# Altium footprint library O_JonF_DaveL.PcbLib: 331 footprints (part 14 of 21)
Each footprint in its own frame and in the unit in brackets; x right, y up, seen from the top. Pads: shape width x height; smd on the part's side, far side on the other; paste and mask are expansions set on the pad; w line width, h text height; cw(c..) or ccw(c..) is an arc to the next point about the centre after c.
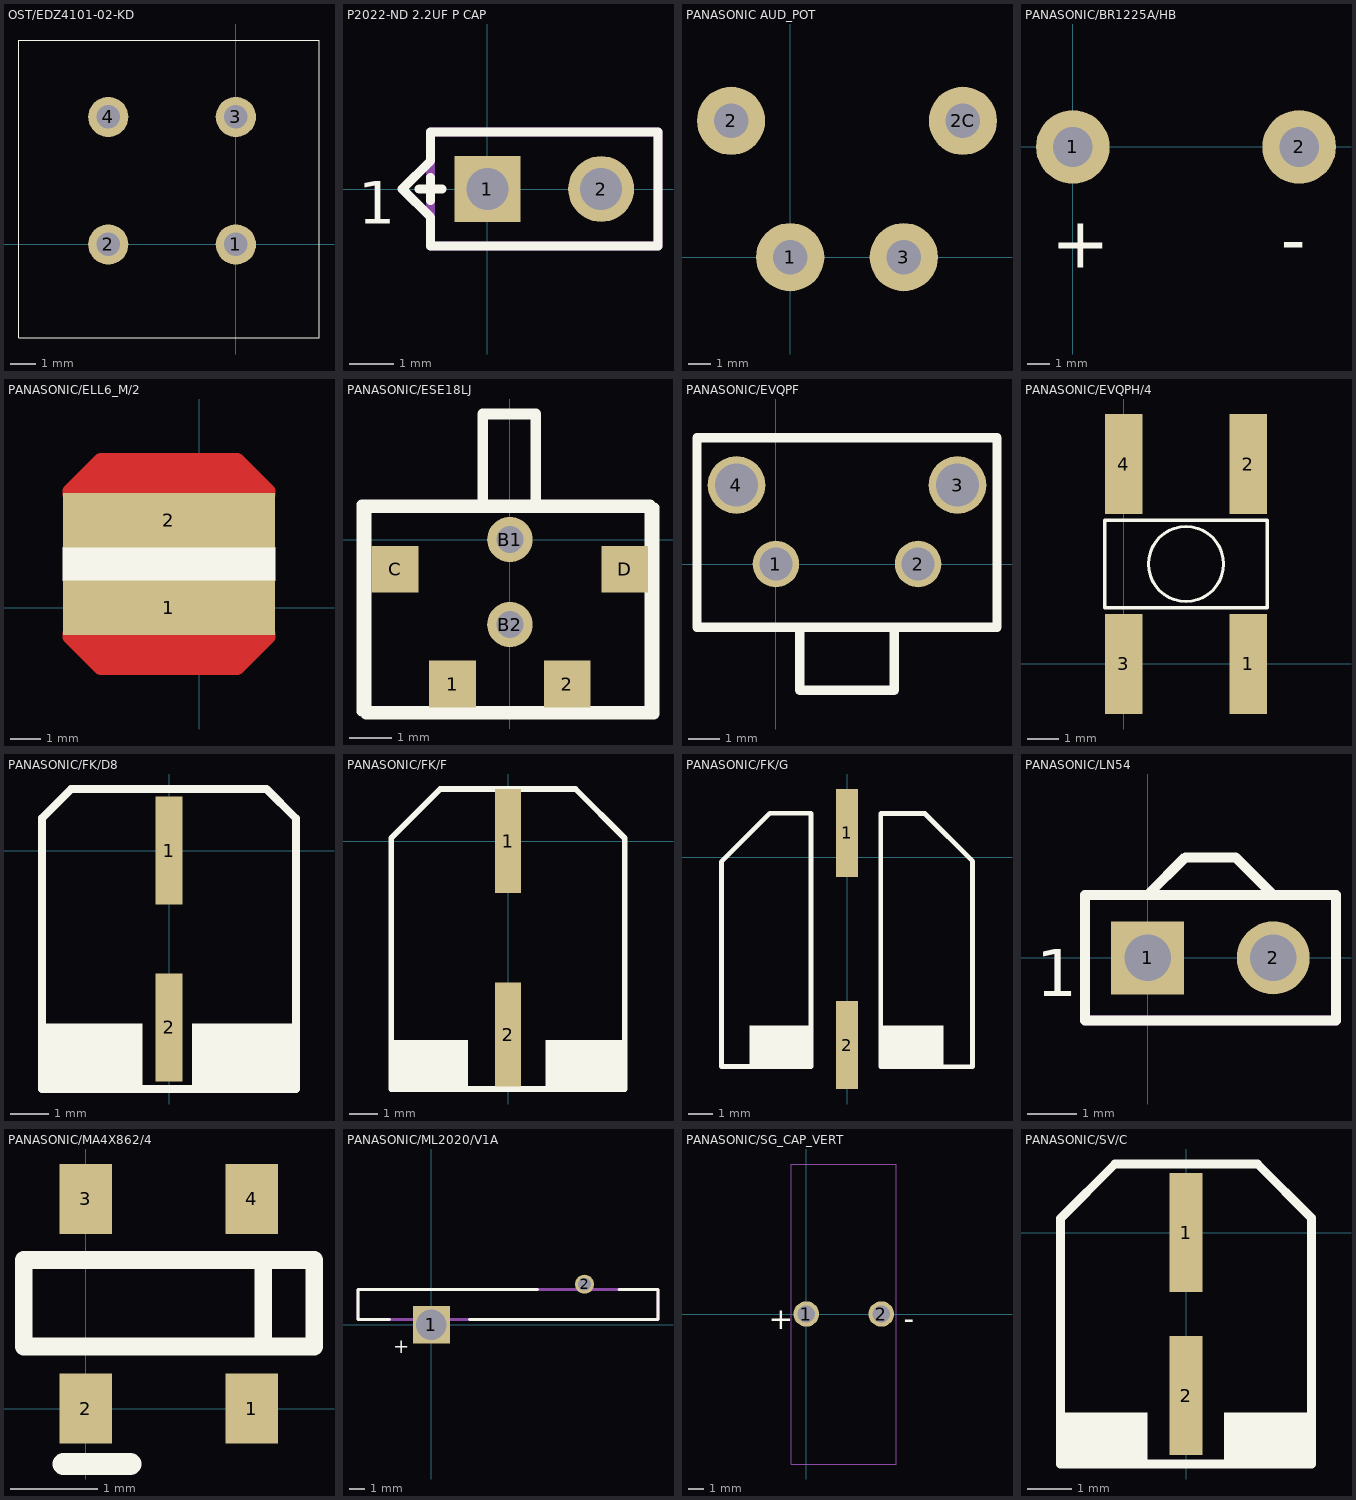
[diagram p13: the footprints below, top view; thin cyan lines are the x and y axes]

## OST/EDZ4101-02-KD [mil]
pads (4):
  round 62 hole 36.22: 1(0,0) 2(-196.85,0) 3(0,196.85) 4(-196.85,196.85)
Top Overlay:
  lines w0.04: -334.65,-143.7 -334.65,314.96 128.35,314.96 128.35,-143.7 -334.65,-143.7
  text ".Designator" at -336.38,322.17 h59.06
Mechanical 1:
  text ".Designator" at 0,354.33 h59.06
  text ".Comment" at 0,236.22 h59.06
  text ".Pattern" at 0,0 h59.06

## P2022-ND 2.2UF P CAP [mil]
pads (2):
  rect 58x58 hole 37: 1(0,0)
  round 58 hole 37: 2(100,0)
Top Overlay:
  lines w8: -60,0 -40,0 ; -50,-10 -50,10 ; -75,0 -50,-25 -50,-50 150,-50 150,50 -50,50 -50,25 -75,0
  text "1" at -113.88,-30.63 h37.5
Mechanical 1:
  lines w8: -50,-50 -50,50 150,50 150,-50 -50,-50
  text "1" at -113.88,-30.63 h37.5

## PANASONIC AUD_POT [mm]
pads (4):
  round 3 / inner round 2 / far side round 3 hole 1.524: 1(0,0) 3(5,0)
  round 3 / inner round 1.524 / far side round 3 hole 1.524: 2(-2.6,6) 2C(7.6,6)

## PANASONIC/BR1225A/HB [mm]
pads (2):
  round 3.25 / inner round 4 / far side round 3.25 hole 1.75: 1(0,0) 2(10,0)
Top Overlay:
  text "+" at -0.96,-5.34 h2.25
  text "-" at 9.18,-5.18 h2.25

## PANASONIC/ELL6_M/2 [mm]
pads (2):
  rect 7x1.8 smd: 1(-1,0) 2(-1,2.9)
Top Layer:
  region: 1.377,5.077 2.477,3.977 2.508,3.9 2.508,3.7 2.477,3.623 2.4,3.592 -4.4,3.592 -4.477,3.623 -4.508,3.7 -4.508,3.9 -4.477,3.977 -3.377,5.077 -3.3,5.108 1.3,5.108
  region: 2.477,-0.723 2.508,-0.8 2.508,-1 2.477,-1.077 1.377,-2.177 1.3,-2.208 -3.3,-2.208 -3.377,-2.177 -4.477,-1.077 -4.508,-1 -4.508,-0.8 -4.477,-0.723 -4.4,-0.692 2.4,-0.692
Top Overlay:
  region: 2.5,2 2.501,2 2.501,0.9 2.5,0.9 2.5,0.899 -4.5,0.899 -4.5,0.9 -4.501,0.9 -4.501,2 -4.5,2 -4.5,2.001 2.5,2.001
  text ".Designator" at -4,8 h1.5
Top Solder:
  region: 1.377,5.077 2.477,3.977 2.508,3.9 2.508,3.7 2.477,3.623 2.4,3.592 -4.4,3.592 -4.477,3.623 -4.508,3.7 -4.508,3.9 -4.477,3.977 -3.377,5.077 -3.3,5.108 1.3,5.108
  region: 2.477,-0.723 2.508,-0.8 2.508,-1 2.477,-1.077 1.377,-2.177 1.3,-2.208 -3.3,-2.208 -3.377,-2.177 -4.477,-1.077 -4.508,-1 -4.508,-0.8 -4.477,-0.723 -4.4,-0.692 2.4,-0.692
Mechanical 1:
  text ".Comment" at 12,6 h1.5
  text ".Designator" at 12,9 h1.5
  text ".Pattern" at 12,0 h1.5

## PANASONIC/ESE18LJ [mm]
pads (6):
  rect 1.1x1.1 smd: 1(-1.35,-3.4) 2(1.35,-3.4) C(-2.7,-0.7) D(2.7,-0.7)
  round 1.067 hole 0.635: B1(0,0) B2(0,-2)
Top Overlay:
  lines w0.25: -3.48,-4.038 3.294,-4.038 3.294,0.816 -3.48,0.816 -3.48,-4.038 ; -3.384,-4.104 3.39,-4.104 3.39,0.75 -3.384,0.75 -3.384,-4.104 ; -0.636,0.816 0.612,0.816 0.612,2.952 -0.636,2.952 -0.636,0.816
  text ".Designator" at -3.454,-5.707 h0.76
Mechanical 1:
  text ".Pattern" at -2.742,-3.15 h0.57
  text ".Comment" at -2.838,-1.584 h0.57
  text ".Designator" at -2.778,-0.93 h0.57

## PANASONIC/EVQPF [mil]
pads (4):
  round 58 hole 41: 1(0,0) 2(177.17,0)
  round 72 hole 54: 3(226.38,98.43) 4(-49.21,98.43)
Top Overlay:
  lines w11.81: -98.43,-78.74 275.59,-78.74 275.59,157.48 -98.43,157.48 -98.43,-78.74 ; 29.53,-157.48 147.64,-157.48 147.64,-78.74 29.53,-78.74 29.53,-157.48
  text ".Designator" at -98.43,167.32 h30
Mechanical 1:
  text ".Designator" at -39.37,118.11 h22.5
  text ".Comment" at -39.37,78.74 h22.5
  text ".Pattern" at -39.37,0 h22.5

## PANASONIC/EVQPH/4 [mm]
pads (4):
  rect 1.2x3.2 smd: 1(4,0) 2(4,6.4) 3(0,0) 4(0,6.4)
Top Overlay:
  circle w0.1: c2,3.2 r1.2
  lines w0.1: -0.6,1.8 4.6,1.8 4.6,4.6 -0.6,4.6 -0.6,1.8
  text ".Designator" at 4.8,7 h1.5
Mechanical 1:
  text ".Pattern" at -9.2,1.8 h1.5
  text ".Comment" at 0,6 h1.5
  text ".Designator" at 0,7.8 h1.5

## PANASONIC/FK/D8 [mm]
pads (2):
  rect 0.7x2.8 smd: 1(0,0) 2(0,-4.6)
Top Overlay:
  region: 3.242,-4.5 3.243,-4.5 3.243,-6.1 3.242,-6.1 3.242,-6.101 0.6,-6.101 0.6,-6.1 0.599,-6.1 0.599,-4.5 0.6,-4.5 0.6,-4.499 3.242,-4.499
  region: -0.7,-4.5 -0.699,-4.5 -0.699,-6.1 -0.7,-6.1 -0.7,-6.101 -3.28,-6.101 -3.28,-6.1 -3.281,-6.1 -3.281,-4.5 -3.28,-4.5 -3.28,-4.499 -0.7,-4.499
  lines w0.2: -3.3,-6.2 3.3,-6.2 3.3,0.836 2.536,1.6 -2.546,1.6 -3.3,0.846 -3.3,-6.2
  text ".Designator" at -3.3,-7.8 h0.95
Mechanical 1:
  text ".Designator" at -3.3,-7.8 h0.95
  text ".Comment" at -3.3,-9.1 h0.95
  text ".Pattern" at -3.3,-11.6 h0.95

## PANASONIC/FK/F [mm]
pads (2):
  rect 0.9x3.6 smd: 1(0,0) 2(0,-6.7)
Top Overlay:
  region: 3.942,-6.9 3.943,-6.9 3.943,-8.5 3.942,-8.5 3.942,-8.501 1.3,-8.501 1.3,-8.5 1.299,-8.5 1.299,-6.9 1.3,-6.9 1.3,-6.899 3.942,-6.899
  region: -1.4,-6.9 -1.399,-6.9 -1.399,-8.5 -1.4,-8.5 -1.4,-8.501 -3.98,-8.501 -3.98,-8.5 -3.981,-8.5 -3.981,-6.9 -3.98,-6.9 -3.98,-6.899 -1.4,-6.899
  lines w0.2: -4.046,-8.582 4.04,-8.582 4.04,0.096 2.336,1.8 -2.346,1.8 -4.046,0.1 -4.046,-8.582
  text ".Designator" at 0,9 h1.5
Mechanical 1:
  text ".Designator" at 0,9 h1.5
  text ".Comment" at 0,6 h1.5
  text ".Pattern" at 0,0 h1.5

## PANASONIC/FK/G [mm]
pads (2):
  rect 0.9x3.6 smd: 1(0,1) 2(0,-7.7)
Top Overlay:
  region: 3.942,-6.9 3.943,-6.9 3.943,-8.5 3.942,-8.5 3.942,-8.501 1.3,-8.501 1.3,-8.5 1.299,-8.5 1.299,-6.9 1.3,-6.9 1.3,-6.899 3.942,-6.899
  region: -1.4,-6.9 -1.399,-6.9 -1.399,-8.5 -1.4,-8.5 -1.4,-8.501 -3.98,-8.501 -3.98,-8.5 -3.981,-8.5 -3.981,-6.9 -3.98,-6.9 -3.98,-6.899 -1.4,-6.899
  lines w0.2: -5.153,-8.582 -1.484,-8.582 -1.484,1.804 -3.163,1.804 -5.153,-0.186 -5.153,-8.582 ; 1.38,-8.586 1.38,1.797 3.188,1.797 5.148,-0.163 5.148,-8.586 1.38,-8.586
  text ".Designator" at 0,9 h1.5
Mechanical 1:
  text ".Designator" at 0,9 h1.5
  text ".Comment" at 0,6 h1.5
  text ".Pattern" at 0,0 h1.5

## PANASONIC/LN54 [mil]
pads (2):
  rect 58x58 hole 37: 1(0,0)
  round 58 hole 37: 2(100,0)
Top Overlay:
  lines w8: -50,-50 -50,50 150,50 150,-50 -50,-50 ; 0,50 30,80 70,80 100,50 0,50
  text ".Designator" at 152.93,-55.63 h37.5
  text "1" at -88.88,-30.63 h37.5
Mechanical 1:
  lines w8: -50,-50 -50,50 150,50 150,-50 -50,-50
  text ".Designator" at -44.45,-180.62 h37.5
  text ".Comment" at -33.33,-130.63 h37.5
  text ".Pattern" at -49.98,-218.38 h22.5
  text "1" at -113.88,-30.63 h37.5

## PANASONIC/MA4X862/4 [mm] "Silicon Epitaxial Planar Diode Array  (EIAJ: SC-61 Package)"
height 1.1
pads (4):
  rect 0.6x0.8 smd: 1(1.9,0) 2(0,0) 3(0,2.4) 4(1.9,2.4)
Top Overlay:
  lines w0.203: 2.032,0.711 2.032,1.702 ; -0.711,0.711 -0.711,1.702 2.616,1.702 2.616,0.711 -0.711,0.711
  lines w0.254: -0.254,-0.635 0.508,-0.635

## PANASONIC/ML2020/V1A [mil]
pads (2):
  rect 97.23x97.23 / inner round 114.97 / far side rect 97.23x97.23 hole 80: 1(0,0)
  round 50 / inner round 68.1 / far side round 50 hole 33: 2(401.57,106.28)
Top Overlay:
  lines w8: -110,13.6 -192.8,13.6 -192.8,92.4 278.4,92.4 ; 100.4,13.6 594.4,13.6 594.4,92.4 492.4,92.4
  text "+" at -100,-75 h37.5
  text ".Designator" at -211.8,127.32 h37.5
Mechanical 1:
  lines w8: -192.8,13.6 -192.8,92.4 594.4,92.4 594.4,13.6 -192.8,13.6
  text ".Designator" at 127.2,10.32 h37.5
  text "+" at -100,-75 h37.5
  text ".Comment" at -220.4,-114.38 h37.5

## PANASONIC/SG_CAP_VERT [mm]
pads (2):
  round 1.7 hole 1.15: 1(0,0) 2(5,0)
Top Overlay:
  text "-" at 6.5,-1 h1.43
  text "+" at -2.5,-1 h1.43
  text ".Designator" at 0,9 h1.5
Mechanical 1:
  lines w0.01: -1,-10 6,-10 6,10 -1,10 -1,4 -1,-10
  text ".Designator" at 0,9 h1.5
  text ".Comment" at 0,6 h1.5
  text ".Pattern" at 0,1.5 h1.5

## PANASONIC/SV/C [mm]
pads (2):
  rect 0.75x2.7 smd: 1(0,0) 2(0,-3.7)
Top Overlay:
  region: -0.882,-4.087 -0.881,-4.087 -0.881,-5.148 -0.882,-5.148 -0.882,-5.149 -2.754,-5.149 -2.754,-5.148 -2.755,-5.148 -2.755,-4.087 -2.754,-4.087 -2.754,-4.086 -0.882,-4.086
  region: 2.742,-4.089 2.743,-4.089 2.743,-5.15 2.742,-5.15 2.742,-5.151 0.87,-5.151 0.87,-5.15 0.869,-5.15 0.869,-4.089 0.87,-4.089 0.87,-4.088 2.742,-4.088
  lines w0.2: -2.852,-5.253 2.849,-5.253 2.849,0.328 1.622,1.555 -1.612,1.555 -2.852,0.315 -2.852,-5.253
  text ".Designator" at -2.882,-7.173 h0.95
Mechanical 1:
  text ".Pattern" at -2.882,-11.541 h0.95
  text ".Comment" at -2.947,-8.586 h0.95
  text ".Designator" at -2.882,-7.173 h0.95